# Altium footprint library SM03B-GHS-TB(LF)(SN).PcbLib: 1 footprints
Each footprint in its own frame and in the unit in brackets; x right, y up, seen from the top. Pads: shape width x height; smd on the part's side, far side on the other; paste and mask are expansions set on the pad; w line width, h text height; cw(c..) or ccw(c..) is an arc to the next point about the centre after c.
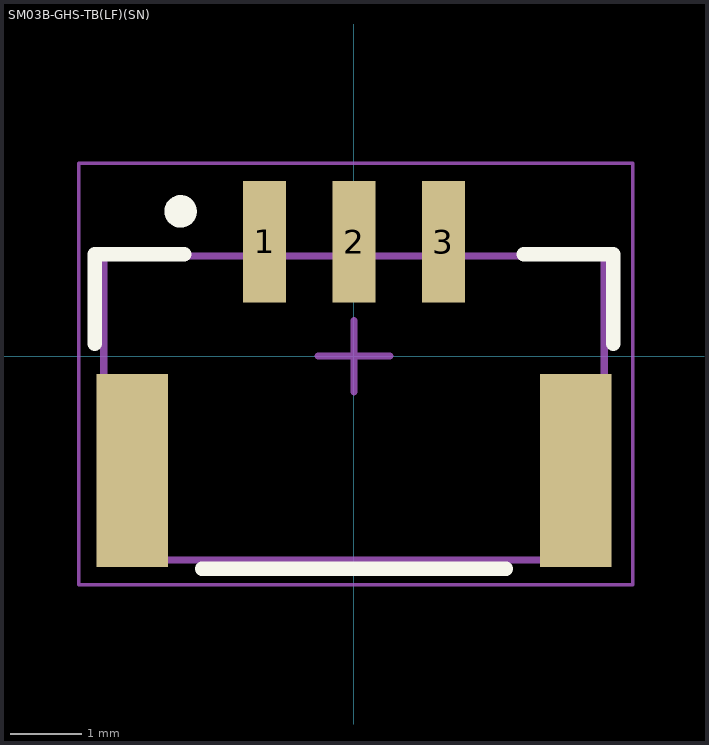
[diagram p0: the footprint, top view; thin cyan lines are the x and y axes]

## SM03B-GHS-TB(LF)(SN) [mm]
pads (5):
  rect 0.6x1.7 smd: 1(-1.25,1.6) 2(0,1.6) 3(1.25,1.6)
  rect 1x2.7 smd: ""(-3.1,-1.6) ""(3.1,-1.6)
Top Overlay:
  circle w0.254: c-2.425,2.025 r0.1
  lines w0.2: -3.625,0.175 -3.625,1.425 -2.375,1.425 ; -2.125,-2.975 2.125,-2.975 ; 2.375,1.425 3.625,1.425 3.625,0.175
Mechanical 1:
  lines w0.1: -3.5,-2.85 -3.5,1.4 3.5,1.4 3.5,-2.85 -3.5,-2.85
  text ".Designator" at -3.374,-1.458 h0.65
Mechanical 2:
  lines w0.05: -3.85,-3.2 3.9,-3.2 3.9,2.7 -3.85,2.7 -3.85,-3.2
  lines w0.1: -0.5,0 0.5,0 ; 0,-0.5 0,0.5
3D body "SM03B-GHS-TB.STEP": height 4.35, standoff 0, extent -3.5,-2.85 3.5,2